# Altium schematic symbol library ESP32-C6-MINI-1-H8.SchLib: 1 symbol
Pins are listed as number, name and electrical type; pins without a type are passive.

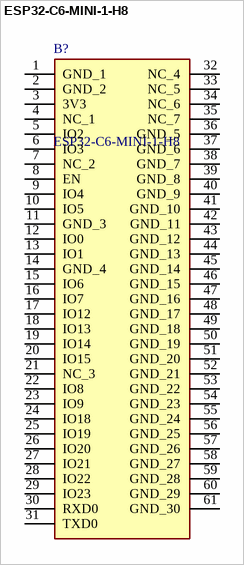
[diagram p0: symbol ESP32-C6-MINI-1-H8]

## ESP32-C6-MINI-1-H8
designator B?
8 MB (Quad SPI) , 13.2  16.6  2.4 , 3.0 ~ 3.6 V , 2.4 GHz , 2412 ~ 2484 MHz , 40C ~ 105C; Manufacturer_Name: Espressif Systems; Geometry.Height: 2.55mm; Mouser Part Number: 356-ESP32C6MINI1H8; Mouser Price/Stock: https://www.mouser.co.uk/ProductDetail/Espressif-Systems/ESP32-C6-MINI-1-H8?qs=olJun0bQHM8q1UR%2FHSWi2A%3D%3D; Manufacturer_Part_Number: ESP32-C6-MINI-1-H8; Datasheet Link: https://www.mouser.ph/ProductDetail/Espressif-Systems/ESP32-C6-MINI-1-H8?qs=olJun0bQHM8q1UR%2FHSWi2A%3D%3D
footprint ESP32C6MINI1H8
pins: 1 GND_1, 2 GND_2, 3 3V3, 4 NC_1, 5 IO2, 6 IO3, 7 NC_2, 8 EN, 9 IO4, 10 IO5, 11 GND_3, 12 IO0, 13 IO1, 14 GND_4, 15 IO6, 16 IO7, 17 IO12, 18 IO13, 19 IO14, 20 IO15, 21 NC_3, 22 IO8, 23 IO9, 24 IO18, 25 IO19, 26 IO20, 27 IO21, 28 IO22, 29 IO23, 30 RXD0, 31 TXD0, 32 NC_4, 33 NC_5, 34 NC_6, 35 NC_7, 36 GND_5, 37 GND_6, 38 GND_7, 39 GND_8, 40 GND_9, 41 GND_10, 42 GND_11, 43 GND_12, 44 GND_13, 45 GND_14, 46 GND_15, 47 GND_16, 48 GND_17, 49 GND_18, 50 GND_19, 51 GND_20, 52 GND_21, 53 GND_22, 54 GND_23, 55 GND_24, 56 GND_25, 57 GND_26, 58 GND_27, 59 GND_28, 60 GND_29, 61 GND_30